# Altium footprint library Roniere_Lib.PcbLib: 16 footprints
Each footprint in its own frame and in the unit in brackets; x right, y up, seen from the top. Pads: shape width x height; smd on the part's side, far side on the other; paste and mask are expansions set on the pad; w line width, h text height; cw(c..) or ccw(c..) is an arc to the next point about the centre after c.
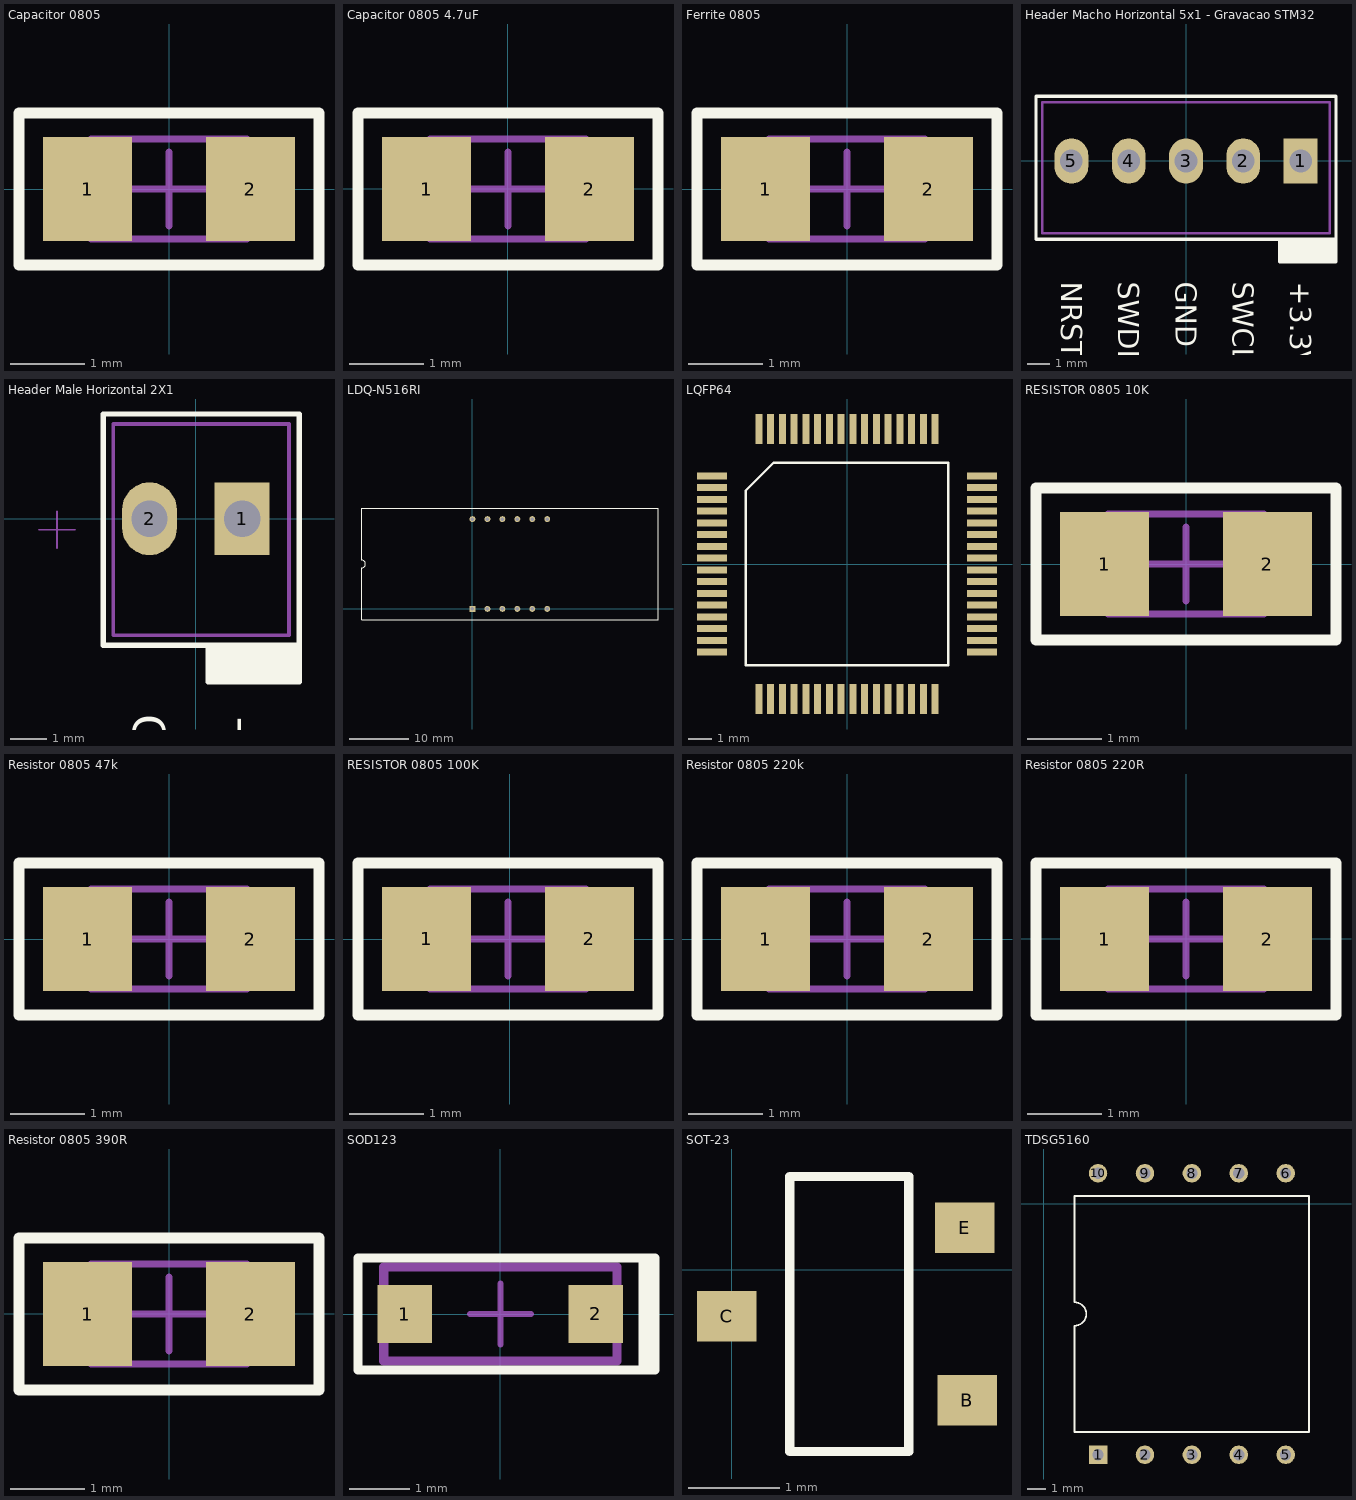
[diagram p0: the footprints below, top view; thin cyan lines are the x and y axes]

## Capacitor 0805 [mm]
pads (2):
  rect 1.2x1.4 smd: 1(-1.1,0) 2(1.1,0)
Top Overlay:
  lines w0.15: -2.025,-1.025 -2.025,1.025 2.025,1.025 2.025,-1.025 -2.025,-1.025
Mechanical 13:
  lines w0.1: -1.05,-0.675 -1.05,0.675 1.05,0.675 1.05,-0.675 -1.05,-0.675
Mechanical 15:
  lines w0.1: -0.5,0 0.5,0 ; 0,-0.5 0,0.5
3D body "Cap 0805.step": height 0.6, standoff 0, extent -1,-0.625 1,0.625

## Capacitor 0805 4.7uF [mm]
pads (2):
  rect 1.2x1.4 smd: 1(-1.1,0) 2(1.1,0)
Top Overlay:
  lines w0.15: -2.025,-1.025 2.025,-1.025 2.025,1.025 -2.025,1.025 -2.025,-1.025
Mechanical 13:
  lines w0.1: -1.05,-0.675 1.05,-0.675 1.05,0.675 -1.05,0.675 -1.05,-0.675
Mechanical 15:
  lines w0.1: -0.5,0 0.5,0 ; 0,-0.5 0,0.5
3D body "c0805c475k4ractu.stp": height 1.4, standoff 0, extent -1.075,-0.7 1.125,0.75

## Ferrite 0805 [mm]
pads (2):
  rect 1.2x1.4 smd: 1(-1.1,0) 2(1.1,0)
Top Overlay:
  lines w0.15: -2.025,-1.025 -2.025,1.025 2.025,1.025 2.025,-1.025 -2.025,-1.025
Mechanical 13:
  lines w0.1: -1.05,-0.675 -1.05,0.675 1.05,0.675 1.05,-0.675 -1.05,-0.675
Mechanical 15:
  lines w0.1: -0.5,0 0.5,0 ; 0,-0.5 0,0.5
3D body "Ferrite 0805.step": height 0.8, standoff 0, extent -1.279,-0.62 1.229,0.625

## Header Macho Horizontal 5x1 - Gravacao STM32 [mm] "Header Macho Horizontal 5x1 - Gravacao STM32"
pads (5):
  rect 1.5x2 hole 1: 1(5.08,0)
  oval 1.5x2 hole 1: 2(2.54,0) 3(0,0) 4(-2.54,0) 5(-5.08,0)
Top Overlay:
  rectangle: 4.15,-4.475 6.65,-3.475
  lines w0.15: 4.15,-3.475 4.15,-4.475 5.65,-4.475 6.65,-4.475 6.65,-3.475 ; 6.65,-3.475 6.65,2.875 -6.65,2.875 -6.65,-3.475 6.65,-3.475
  text "GND" at -0.457,-5.359 h0.91
  text "NRST" at -5.537,-5.359 h0.91
  text "SWDIO" at -2.997,-5.359 h0.91
  text "SWCLK" at 2.083,-5.359 h0.91
  text "+3.3V" at 4.623,-5.359 h0.91
Mechanical 13:
  lines w0.1: -6.37,-3.2 6.37,-3.2 6.37,2.6 -6.37,2.6 -6.37,-3.2
Mechanical 15:
  lines w0.05: -0.5,-0.3 0.5,-0.3 ; 0,-0.8 0,0.2
3D body "61900511121.stp": height 11.53, standoff -3.37, extent -6.35,-3.2 6.35,2.6

## Header Male Horizontal 2X1 [mm]
pads (2):
  rect 1.5x2 hole 1: 1(1.27,0)
  oval 1.5x2 hole 1: 2(-1.27,0)
Top Overlay:
  rectangle: 0.34,-4.475 2.84,-3.475
  lines w0.15: 0.34,-3.475 0.34,-4.475 1.84,-4.475 2.84,-4.475 2.84,-3.475 ; 2.84,-3.475 -2.54,-3.475 -2.54,2.875 2.84,2.875 2.84,-3.475
  text "+3.3V" at 0.813,-5.359 h0.91
  text "GND" at -1.727,-5.359 h0.91
Mechanical 13:
  lines w0.1: -2.261,-3.2 -2.261,2.6 2.56,2.6 2.56,-3.2 -2.261,-3.2
Mechanical 15:
  lines w0.05: -4.31,-0.3 -3.31,-0.3 ; -3.81,-0.8 -3.81,0.2
3D body "WR-WTB 2,54mm Vertical Locking Header 2p.stp": height 11.6, standoff -3.3, extent -2.565,-3.205 2.515,2.595

## LDQ-N516RI [mm]
pads (12):
  rect 1x1 hole 0.6: 1(0,0)
  round 1 hole 0.6: 2(2.54,0) 3(5.08,0) 4(7.62,0) 5(10.16,0) 6(12.7,0) 7(12.7,15.24) 8(10.16,15.24) 9(7.62,15.24) 10(5.08,15.24) 11(2.54,15.24) 12(0,15.24)
Top Overlay:
  lines w0.1: -18.8,8.255 -18.8,17.12 31.496,17.12 31.496,-1.88 -18.796,-1.88 -18.796,6.985 ccw(c-18.796,7.62) -18.796,8.255
3D body "LDQ-N516R1.step": height 8, standoff -3.5, extent -18.8,-1.88 31.5,17.12

## LQFP64 [mm]
pads (64):
  rect 1.276x0.3 smd: 1(-5.75,3.75) 2(-5.75,3.25) 3(-5.75,2.75) 4(-5.75,2.25) 5(-5.75,1.75) 6(-5.75,1.25) 7(-5.75,0.75) 8(-5.75,0.25) 9(-5.75,-0.25) 10(-5.75,-0.75) 11(-5.75,-1.25) 12(-5.75,-1.75) 13(-5.75,-2.25) 14(-5.75,-2.75) 15(-5.75,-3.25) 16(-5.75,-3.75) 33(5.75,-3.75) 34(5.75,-3.25) 35(5.75,-2.75) 36(5.75,-2.25) 37(5.75,-1.75) 38(5.75,-1.25) 39(5.75,-0.75) 40(5.75,-0.25) 41(5.75,0.25) 42(5.75,0.75) 43(5.75,1.25) 44(5.75,1.75) 45(5.75,2.25) 46(5.75,2.75) 47(5.75,3.25) 48(5.75,3.75)
  rect 0.3x1.276 smd: 17(-3.75,-5.75) 18(-3.25,-5.75) 19(-2.75,-5.75) 20(-2.25,-5.75) 21(-1.75,-5.75) 22(-1.25,-5.75) 23(-0.75,-5.75) 24(-0.25,-5.75) 25(0.25,-5.75) 26(0.75,-5.75) 27(1.25,-5.75) 28(1.75,-5.75) 29(2.25,-5.75) 30(2.75,-5.75) 31(3.25,-5.75) 32(3.75,-5.75) 49(3.75,5.75) 50(3.25,5.75) 51(2.75,5.75) 52(2.25,5.75) 53(1.75,5.75) 54(1.25,5.75) 55(0.75,5.75) 56(0.25,5.75) 57(-0.25,5.75) 58(-0.75,5.75) 59(-1.25,5.75) 60(-1.75,5.75) 61(-2.25,5.75) 62(-2.75,5.75) 63(-3.25,5.75) 64(-3.75,5.75)
Top Overlay:
  lines w0.1: -4.315,-4.315 -4.315,3.13 -3.13,4.315 4.315,4.315 4.315,-4.315 -4.315,-4.315
3D body "User Library-STM32F107 -LQFP64 10mm x 10mm.step": height 1.6, standoff 0.01, extent -6.012,-6.008 5.985,5.99
3D body: height 8.6, standoff -3.81, extent 0.977,-0.06 0.977,-0.06
3D body: height 8.6, standoff -3.81, extent -0.42,0.956 -0.42,0.956

## RESISTOR 0805 10K [mm]
pads (2):
  rect 1.2x1.4 smd: 1(-1.1,0) 2(1.1,0)
Top Overlay:
  lines w0.15: -2.025,-1.025 -2.025,1.025 2.025,1.025 2.025,-1.025 -2.025,-1.025
Mechanical 13:
  lines w0.1: -1.05,-0.675 -1.05,0.675 1.05,0.675 1.05,-0.675 -1.05,-0.675
Mechanical 15:
  lines w0.1: -0.5,0 0.5,0 ; 0,-0.5 0,0.5
3D body "Resistor_0805_10K.step": height 0.61, standoff 0, extent -0.975,-0.625 1.025,0.625

## Resistor 0805 47k [mm]
pads (2):
  rect 1.2x1.4 smd: 1(-1.1,0) 2(1.1,0)
Top Overlay:
  lines w0.15: -2.025,-1.025 -2.025,1.025 2.025,1.025 2.025,-1.025 -2.025,-1.025
Mechanical 13:
  lines w0.1: -1.05,-0.675 -1.05,0.675 1.05,0.675 1.05,-0.675 -1.05,-0.675
Mechanical 15:
  lines w0.1: -0.5,0 0.5,0 ; 0,-0.5 0,0.5
3D body "Res 0805 47000R.step": height 0.51, standoff 0, extent -1,-0.625 1,0.625

## RESISTOR 0805 100K [mm]
pads (2):
  rect 1.2x1.4 smd: 1(-1.125,0) 2(1.075,0)
Top Overlay:
  lines w0.15: -2.05,-1.025 2,-1.025 2,1.025 -2.05,1.025 -2.05,-1.025
Mechanical 13:
  lines w0.1: -1.075,-0.675 1.025,-0.675 1.025,0.675 -1.075,0.675 -1.075,-0.675
Mechanical 15:
  lines w0.1: -0.525,0 0.475,0 ; -0.025,-0.5 -0.025,0.5
3D body "Resistor_0805_100K.step": height 0.61, standoff 0, extent -1.025,-0.625 0.975,0.625

## Resistor 0805 220k [mm]
pads (2):
  rect 1.2x1.4 smd: 1(-1.1,0) 2(1.1,0)
Top Overlay:
  lines w0.15: -2.025,-1.025 2.025,-1.025 2.025,1.025 -2.025,1.025 -2.025,-1.025
Mechanical 13:
  lines w0.1: -1.05,-0.675 1.05,-0.675 1.05,0.675 -1.05,0.675 -1.05,-0.675
Mechanical 15:
  lines w0.1: -0.5,0 0.5,0 ; 0,-0.5 0,0.5
3D body "Res 0805 220000R.step": height 0.51, standoff 0, extent -1,-0.625 1,0.625

## Resistor 0805 220R [mm]
pads (2):
  rect 1.2x1.4 smd: 1(-1.1,0) 2(1.1,0)
Top Overlay:
  lines w0.15: -2.025,-1.025 -2.025,1.025 2.025,1.025 2.025,-1.025 -2.025,-1.025
Mechanical 13:
  lines w0.1: -1.05,-0.675 -1.05,0.675 1.05,0.675 1.05,-0.675 -1.05,-0.675
Mechanical 15:
  lines w0.1: -0.5,0 0.5,0 ; 0,-0.5 0,0.5
3D body "Resistor_0805_220R.step": height 0.61, standoff 0, extent -1,-0.625 1,0.625

## Resistor 0805 390R [mm]
pads (2):
  rect 1.2x1.4 smd: 1(-1.1,0) 2(1.1,0)
Top Overlay:
  lines w0.15: -2.025,-1.025 2.025,-1.025 2.025,1.025 -2.025,1.025 -2.025,-1.025
Mechanical 13:
  lines w0.1: -1.05,-0.675 1.05,-0.675 1.05,0.675 -1.05,0.675 -1.05,-0.675
Mechanical 15:
  lines w0.1: -0.5,0 0.5,0 ; 0,-0.5 0,0.5
3D body "Resistor_0805_390R.step": height 0.61, standoff 0, extent -1,-0.625 1,0.625

## SOD123 [mm]
pads (2):
  rect 0.9x0.95 smd: 1(-1.575,0) 2(1.575,0)
Top Overlay:
  rectangle: 2.275,-0.95 2.6,0.95
  lines w0.15: -2.35,-0.925 -2.35,0.925 2.55,0.925 2.55,-0.925 -2.35,-0.925
Mechanical 13:
  lines w0.15: -1.925,-0.775 1.925,-0.775 1.925,0.775 -1.925,0.775 -1.925,-0.775
Mechanical 15:
  lines w0.1: -0.5,0 0.5,0 ; 0,-0.5 0,0.5
3D body "SOD123.step": height 1.28, standoff 0, extent -1.85,-0.8 1.85,0.8

## SOT-23 [mm]
pads (3):
  rect 0.65x0.55 smd: B(2.565,-1.422) C(-0.051,-0.508) E(2.54,0.457)
Top Overlay:
  lines w0.1: 0.635,-1.981 0.635,1.016 1.93,1.016 1.93,-1.981 0.635,-1.981
3D body "SOT-23.step": height 1.09, standoff -0.01, extent 0.04,-1.983 2.54,1.017

## TDSG5160 [mm]
pads (10):
  rect 1x1 hole 0.6: 1(2.925,-13.6)
  round 1 hole 0.6: 2(5.465,-13.6) 3(8.005,-13.6) 4(10.545,-13.6) 5(13.085,-13.6) 6(13.085,1.64) 7(10.545,1.64) 8(8.005,1.64) 9(5.465,1.64) 10(2.925,1.64)
Top Overlay:
  lines w0.1: 1.655,-12.365 14.355,-12.365 14.355,0.405 1.655,0.405 1.655,-5.345 cw(c1.655,-5.98) 1.655,-6.615 1.655,-12.365
3D body "TDSG5160.step": height 6.48, standoff -4.52, extent 1.83,-14.755 14.23,2.745